# EAGLE library part SMD-HEADER-16P-2.54 (library SKAARHOJ)
320020023
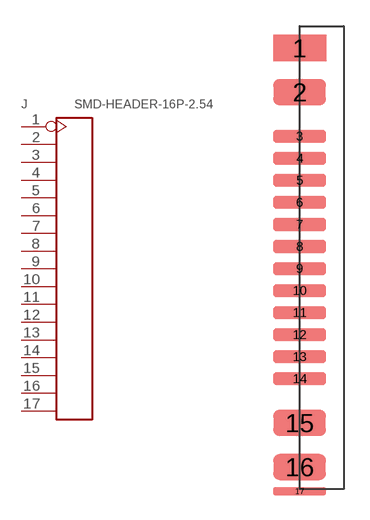
[diagram p55: symbol with the pads of H16-SMD-2.54; footprint H16-SMD-2.54]

Designator prefix J

## SMD-HEADER-16P-2.54  [H16-SMD-2.54]
1  1
2  2
3  3
4  4
5  5
6  6
7  7
8  8
9  9
10  10
11  11
12  12
13  13
14  14
15  15
16  16
17  17

## Footprint H16-SMD-2.54 (pad centres in mm)
smd 3.048 x 1.524: 1 0,12.065; 2 0,9.525; 15 0,-9.525; 16 0,-12.065
smd 3.048 x 0.762: 3 0,6.985; 4 0,5.715; 5 0,4.445; 6 0,3.175; 7 0,1.905; 8 0,0.635; 9 0,-0.635; 10 0,-1.905; 11 0,-3.175; 12 0,-4.445; 13 0,-5.715; 14 0,-6.985
smd 3.048 x 0.508: 17 0,-13.462